# Altium footprint library CONNECTOR_CARDEDGE.PcbLib: 1 footprints
Each footprint in its own frame and in the unit in brackets; x right, y up, seen from the top. Pads: shape width x height; smd on the part's side, far side on the other; paste and mask are expansions set on the pad; w line width, h text height; cw(c..) or ccw(c..) is an arc to the next point about the centre after c.
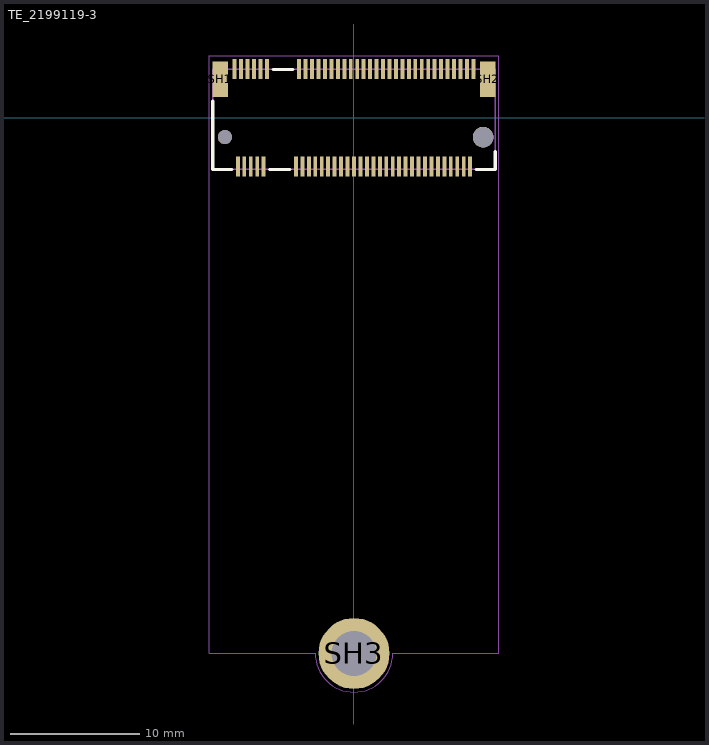
[diagram p0: the footprint, top view; thin cyan lines are the x and y axes]

## TE_2199119-3 [mm]
height 3.2
pads (72):
  rect 0.3x1.55 smd: 1(-9.25,3.775) 2(-9,-3.775) 3(-8.75,3.775) 4(-8.5,-3.775) 5(-8.25,3.775) 6(-8,-3.775) 7(-7.75,3.775) 8(-7.5,-3.775) 9(-7.25,3.775) 10(-7,-3.775) 11(-6.75,3.775) 20(-4.5,-3.775) 21(-4.25,3.775) 22(-4,-3.775) 23(-3.75,3.775) 24(-3.5,-3.775) 25(-3.25,3.775) 26(-3,-3.775) 27(-2.75,3.775) 28(-2.5,-3.775) 29(-2.25,3.775) 30(-2,-3.775) 31(-1.75,3.775) 32(-1.5,-3.775) 33(-1.25,3.775) 34(-1,-3.775) 35(-0.75,3.775) 36(-0.5,-3.775) 37(-0.25,3.775) 38(0,-3.775) 39(0.25,3.775) 40(0.5,-3.775) 41(0.75,3.775) 42(1,-3.775) 43(1.25,3.775) 44(1.5,-3.775) 45(1.75,3.775) 46(2,-3.775) 47(2.25,3.775) 48(2.5,-3.775) 49(2.75,3.775) 50(3,-3.775) 51(3.25,3.775) 52(3.5,-3.775) 53(3.75,3.775) 54(4,-3.775) 55(4.25,3.775) 56(4.5,-3.775) 57(4.75,3.775) 58(5,-3.775) 59(5.25,3.775) 60(5.5,-3.775) 61(5.75,3.775) 62(6,-3.775) 63(6.25,3.775) 64(6.5,-3.775) 65(6.75,3.775) 66(7,-3.775) 67(7.25,3.775) 68(7.5,-3.775) 69(7.75,3.775) 70(8,-3.775) 71(8.25,3.775) 72(8.5,-3.775) 73(8.75,3.775) 74(9,-3.775) 75(9.25,3.775)
  rect 1.2x2.75 smd: SH1(-10.35,3) SH2(10.35,3)
  round 5.5 hole 3.5: SH3(0,-41.5)
  round 1.1 hole 1.1 unplated: ""(-10,-1.5)
  round 1.6 hole 1.6 unplated: ""(10,-1.5)
Top Overlay:
  lines w0.25: -10.95,1.305 -10.95,-4 -9.47,-4 ; -6.53,-4 -4.97,-4 ; -6.28,3.75 -4.72,3.75 ; 9.47,-4 10.95,-4 10.95,-2.62
Mechanical 13:
  lines w0.1: -10.95,-4 -10.95,3.75 10.95,3.75 10.95,-4 -10.95,-4
Mechanical 15:
  lines w0.05: -11.2,-41.5 -11.2,4.8 11.2,4.8 11.2,-41.5 3,-41.5 cw(c0,-41.5) -3,-41.5 -11.2,-41.5
3D body "2242_B_M.step": height 3.85, standoff 0.35, extent -11,-41.492 11,0.508
3D body "2199119-3.stp": height 3.09, standoff -0.54, extent -10.95,-4.35 10.95,4.35